# Altium schematic symbol library WE-AC HC.SchLib: 10 symbols
Pins are listed as number, name and electrical type; pins without a type are passive.

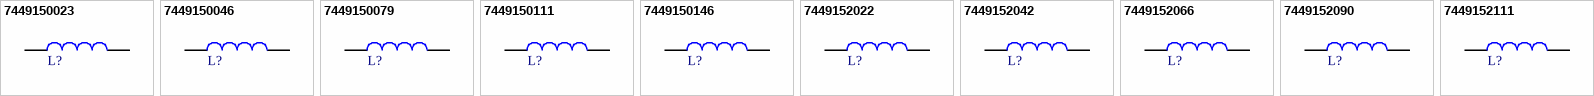
[diagram p0: symbols 7449150023 to 7449152111]

## 7449150023
designator L?, comment 23nH  (value not drawn)
WE-AC HC SMT High Current Air Coil, size 1010, 23nH, 30A, 1.2mΩ; Manufacturer Part Number: 7449150023; Manufacturer: Wurth Elektronik; Case/Size Code: 1010; Inductance Tolerance: 20%; Q Factor: 191; Self Resonant Frequency: 867MHz; Category: RF Inductors; Match Code: WE-AC HC; ComponentLink1Description: Website Link; ComponentLink1URL: https://www.we-online.com/redexpert/article/7449150023?ad; ComponentLink2Description: Datasheet Link; ComponentLink2URL: https://www.we-online.com/redexpert/spec/7449150023?ad; Mount: Surface Mount; Operating Temperature Max: 125°C; Operating Temperature Min: -40°C; Packaging: Tape and Reel; Length: 10mm; Width: 10mm; Height: 4mm; DC Resistance Max: 1.2mΩ; Inductance: 23nH; Rated Current: 30A
footprint 7449150023
simulation model 1010_7449150023_23n
pins: 1, 2

## 7449150046
designator L?, comment 46.5nH  (value not drawn)
WE-AC HC SMT High Current Air Coil, size 1010, 46.5nH, 28A, 1.62mΩ; Manufacturer Part Number: 7449150046; Manufacturer: Wurth Elektronik; Case/Size Code: 1010; Inductance Tolerance: 20%; Q Factor: 223; Self Resonant Frequency: 581MHz; Category: RF Inductors; Match Code: WE-AC HC; ComponentLink1Description: Website Link; ComponentLink1URL: https://www.we-online.com/redexpert/article/7449150046?ad; ComponentLink2Description: Datasheet Link; ComponentLink2URL: https://www.we-online.com/redexpert/spec/7449150046?ad; Mount: Surface Mount; Operating Temperature Max: 125°C; Operating Temperature Min: -40°C; Packaging: Tape and Reel; Length: 10mm; Width: 10mm; Height: 5mm; DC Resistance Max: 1.62mΩ; Inductance: 46.5nH; Rated Current: 28A
footprint 7449150046
simulation model 1010_7449150046_46.5n
pins: 1, 2

## 7449150079
designator L?, comment 79nH  (value not drawn)
WE-AC HC SMT High Current Air Coil, size 1010, 79nH, 23A, 2.11mΩ; Manufacturer Part Number: 7449150079; Manufacturer: Wurth Elektronik; Case/Size Code: 1010; Inductance Tolerance: 20%; Q Factor: 184; Self Resonant Frequency: 422MHz; Category: RF Inductors; Match Code: WE-AC HC; ComponentLink1Description: Website Link; ComponentLink1URL: https://www.we-online.com/redexpert/article/7449150079?ad; ComponentLink2Description: Datasheet Link; ComponentLink2URL: https://www.we-online.com/redexpert/spec/7449150079?ad; Mount: Surface Mount; Operating Temperature Max: 125°C; Operating Temperature Min: -40°C; Packaging: Tape and Reel; Length: 10mm; Width: 10mm; Height: 5.8mm; DC Resistance Max: 2.11mΩ; Inductance: 79nH; Rated Current: 23A
footprint 7449150079
simulation model 1010_7449150079_79n
pins: 1, 2

## 7449150111
designator L?, comment 111nH  (value not drawn)
WE-AC HC SMT High Current Air Coil, size 1010, 111nH, 22A, 2.11mΩ; Manufacturer Part Number: 7449150111; Manufacturer: Wurth Elektronik; Case/Size Code: 1010; Inductance Tolerance: 20%; Q Factor: 186; Self Resonant Frequency: 374MHz; Category: RF Inductors; Match Code: WE-AC HC; ComponentLink1Description: Website Link; ComponentLink1URL: https://www.we-online.com/redexpert/article/7449150111?ad; ComponentLink2Description: Datasheet Link; ComponentLink2URL: https://www.we-online.com/redexpert/spec/7449150111?ad; Mount: Surface Mount; Operating Temperature Max: 125°C; Operating Temperature Min: -40°C; Packaging: Tape and Reel; Length: 10mm; Width: 10mm; Height: 6.9mm; DC Resistance Max: 2.11mΩ; Inductance: 111nH; Rated Current: 22A
footprint 7449150111
simulation model 1010_7449150111_111n
pins: 1, 2

## 7449150146
designator L?, comment 146nH  (value not drawn)
WE-AC HC SMT High Current Air Coil, size 1010, 146nH, 19A, 3.33mΩ; Manufacturer Part Number: 7449150146; Manufacturer: Wurth Elektronik; Case/Size Code: 1010; Inductance Tolerance: 20%; Q Factor: 163; Self Resonant Frequency: 332MHz; Category: RF Inductors; Match Code: WE-AC HC; ComponentLink1Description: Website Link; ComponentLink1URL: https://www.we-online.com/redexpert/article/7449150146?ad; ComponentLink2Description: Datasheet Link; ComponentLink2URL: https://www.we-online.com/redexpert/spec/7449150146?ad; Mount: Surface Mount; Operating Temperature Max: 125°C; Operating Temperature Min: -40°C; Packaging: Tape and Reel; Length: 10mm; Width: 10mm; Height: 6.5mm; DC Resistance Max: 3.33mΩ; Inductance: 146nH; Rated Current: 19A
footprint 7449150146
simulation model 1010_7449150146_146n
pins: 1, 2

## 7449152022
designator L?, comment 22nH  (value not drawn)
WE-AC HC SMT High Current Air Coil, size 1212, 22nH, 40A, 0.55mΩ; Manufacturer Part Number: 7449152022; Manufacturer: Wurth Elektronik; Case/Size Code: 1212; Inductance Tolerance: 20%; Q Factor: 280; Self Resonant Frequency: 867MHz; Category: RF Inductors; Match Code: WE-AC HC; ComponentLink1Description: Website Link; ComponentLink1URL: https://www.we-online.com/redexpert/article/7449152022?ad; ComponentLink2Description: Datasheet Link; ComponentLink2URL: https://www.we-online.com/redexpert/spec/7449152022?ad; Mount: Surface Mount; Operating Temperature Max: 125°C; Operating Temperature Min: -40°C; Packaging: Tape and Reel; Length: 11.5mm; Width: 12mm; Height: 6.6mm; DC Resistance Max: 0.55mΩ; Inductance: 22nH; Rated Current: 40A
footprint 7449152022
simulation model 1212_7449152022_22n
pins: 1, 2

## 7449152042
designator L?, comment 42nH  (value not drawn)
WE-AC HC SMT High Current Air Coil, size 1212, 42nH, 34A, 0.77mΩ; Manufacturer Part Number: 7449152042; Manufacturer: Wurth Elektronik; Case/Size Code: 1212; Inductance Tolerance: 20%; Q Factor: 240; Self Resonant Frequency: 605MHz; Category: RF Inductors; Match Code: WE-AC HC; ComponentLink1Description: Website Link; ComponentLink1URL: https://www.we-online.com/redexpert/article/7449152042?ad; ComponentLink2Description: Datasheet Link; ComponentLink2URL: https://www.we-online.com/redexpert/spec/7449152042?ad; Mount: Surface Mount; Operating Temperature Max: 125°C; Operating Temperature Min: -40°C; Packaging: Tape and Reel; Length: 11.5mm; Width: 12mm; Height: 7.6mm; DC Resistance Max: 0.77mΩ; Inductance: 42nH; Rated Current: 34A
footprint 7449152042
simulation model 1212_7449152042_42n
pins: 1, 2

## 7449152066
designator L?, comment 66nH  (value not drawn)
WE-AC HC SMT High Current Air Coil, size 1212, 66nH, 32A, 0.99mΩ; Manufacturer Part Number: 7449152066; Manufacturer: Wurth Elektronik; Case/Size Code: 1212; Inductance Tolerance: 20%; Q Factor: 245; Self Resonant Frequency: 457MHz; Category: RF Inductors; Match Code: WE-AC HC; ComponentLink1Description: Website Link; ComponentLink1URL: https://www.we-online.com/redexpert/article/7449152066?ad; ComponentLink2Description: Datasheet Link; ComponentLink2URL: https://www.we-online.com/redexpert/spec/7449152066?ad; Mount: Surface Mount; Operating Temperature Max: 125°C; Operating Temperature Min: -40°C; Packaging: Tape and Reel; Length: 11.5mm; Width: 12mm; Height: 8.8mm; DC Resistance Max: 0.99mΩ; Inductance: 66nH; Rated Current: 32A
footprint 7449152066
simulation model 1212_7449152066_66n
pins: 1, 2

## 7449152090
designator L?, comment 90nH  (value not drawn)
WE-AC HC SMT High Current Air Coil, size 1212, 90nH, 30A, 1.21mΩ; Manufacturer Part Number: 7449152090; Manufacturer: Wurth Elektronik; Case/Size Code: 1212; Inductance Tolerance: 20%; Q Factor: 226; Self Resonant Frequency: 359MHz; Category: RF Inductors; Match Code: WE-AC HC; ComponentLink1Description: Website Link; ComponentLink1URL: https://www.we-online.com/redexpert/article/7449152090?ad; ComponentLink2Description: Datasheet Link; ComponentLink2URL: https://www.we-online.com/redexpert/spec/7449152090?ad; Mount: Surface Mount; Operating Temperature Max: 125°C; Operating Temperature Min: -40°C; Packaging: Tape and Reel; Length: 11.5mm; Width: 12mm; Height: 10.4mm; DC Resistance Max: 1.21mΩ; Inductance: 90nH; Rated Current: 30A
footprint 7449152090
simulation model 1212_7449152090_90n
pins: 1, 2

## 7449152111
designator L?, comment 117nH  (value not drawn)
WE-AC HC SMT High Current Air Coil, size 1212, 117nH, 32A, 1.43mΩ; Manufacturer Part Number: 7449152111; Manufacturer: Wurth Elektronik; Case/Size Code: 1212; Inductance Tolerance: 20%; Q Factor: 211; Self Resonant Frequency: 345MHz; Category: RF Inductors; Match Code: WE-AC HC; ComponentLink1Description: Website Link; ComponentLink1URL: https://www.we-online.com/redexpert/article/7449152111?ad; ComponentLink2Description: Datasheet Link; ComponentLink2URL: https://www.we-online.com/redexpert/spec/7449152111?ad; Mount: Surface Mount; Operating Temperature Max: 125°C; Operating Temperature Min: -40°C; Packaging: Tape and Reel; Length: 11.5mm; Width: 12mm; Height: 11.3mm; DC Resistance Max: 1.43mΩ; Inductance: 117nH; Rated Current: 32A
footprint 7449152111
simulation model 1212_7449152111_117n
pins: 1, 2